# Altium footprint library Logic.PcbLib: 13 footprints
Each footprint in its own frame and in the unit in brackets; x right, y up, seen from the top. Pads: shape width x height; smd on the part's side, far side on the other; paste and mask are expansions set on the pad; w line width, h text height; cw(c..) or ccw(c..) is an arc to the next point about the centre after c.
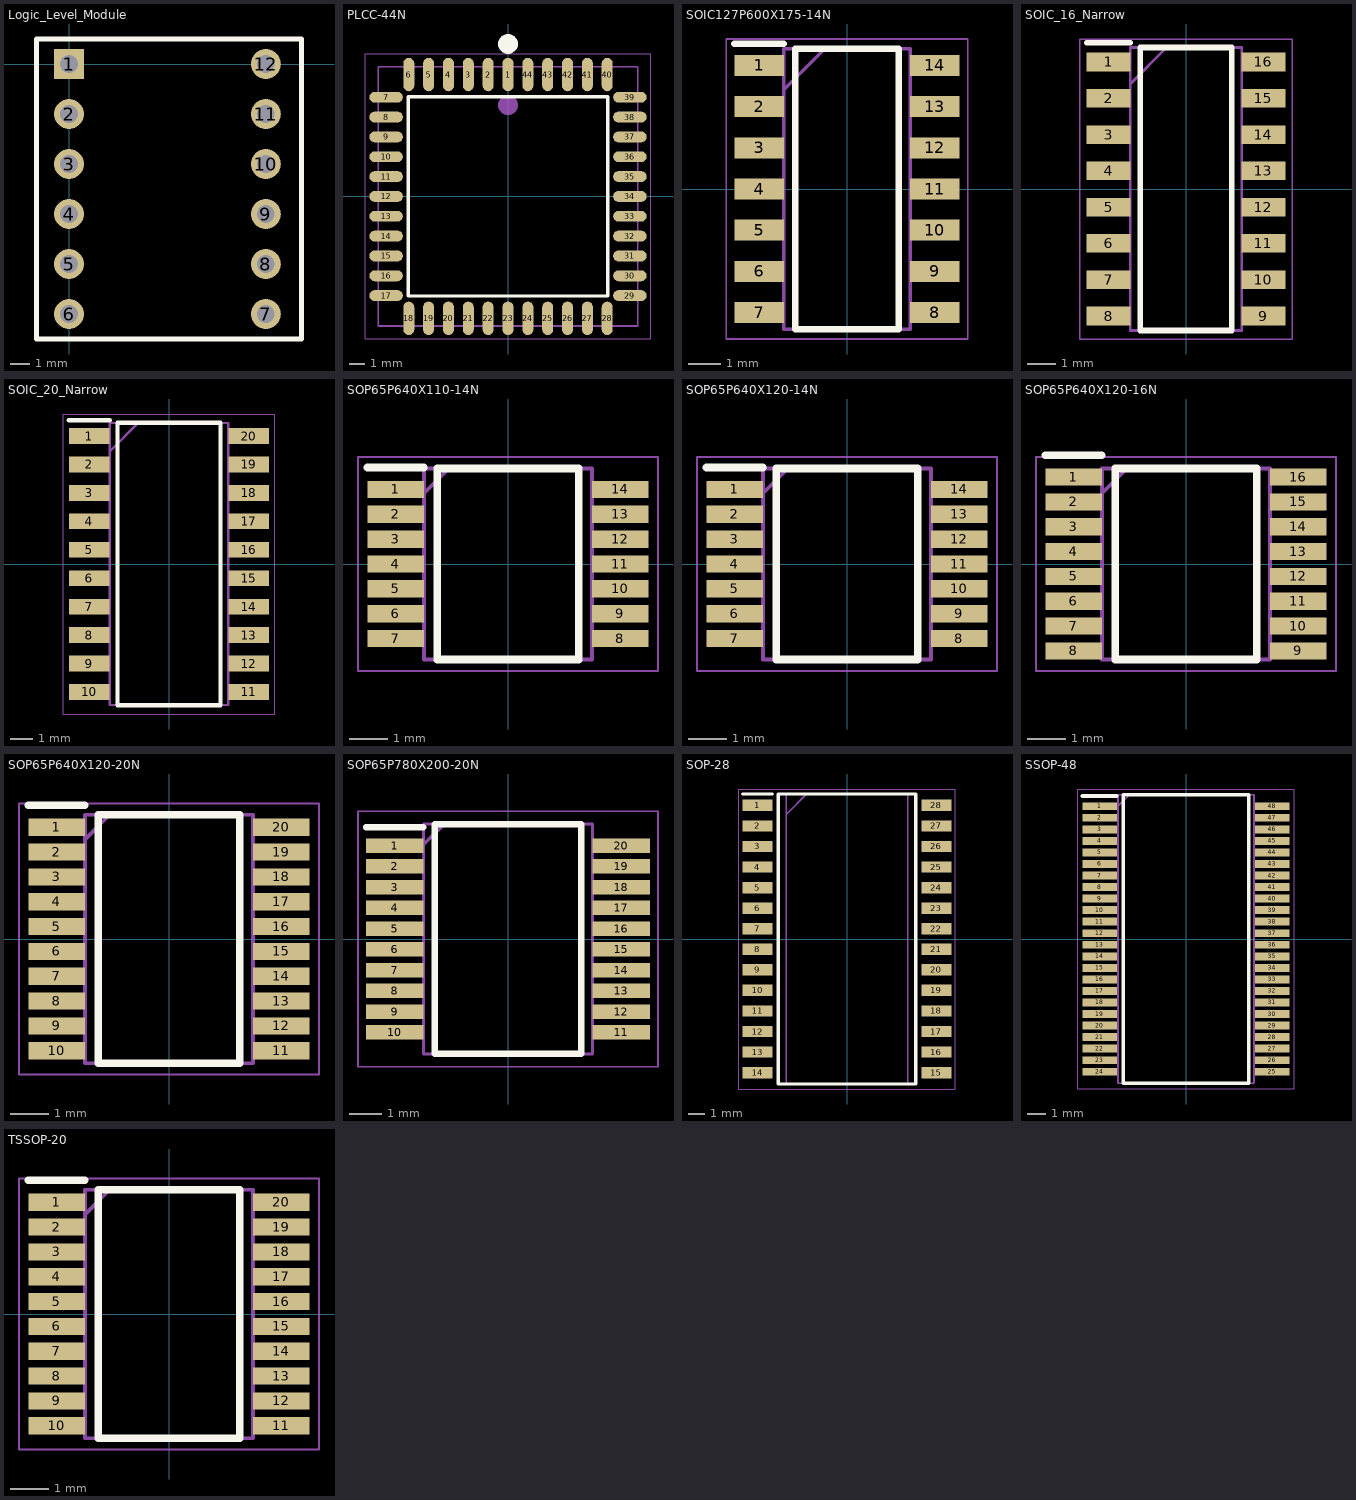
[diagram p0: the footprints below, top view; thin cyan lines are the x and y axes]

## Logic_Level_Module [mil]
pads (12):
  rect 60x60 hole 35.43: 1(0,0)
  round 60 hole 35.43: 2(0,-100) 3(0,-200) 4(0,-300) 5(0,-400) 6(0,-500) 7(393.7,-500) 8(393.7,-400) 9(393.7,-300) 10(393.7,-200) 11(393.7,-100) 12(393.7,0)
Top Overlay:
  lines w10: -65,-550 -65,50 465,50 465,-550 -65,-550

## PLCC-44N [mm]
pads (44):
  oval 0.7x2.144 smd: 1(0,7.803) 2(-1.27,7.803) 3(-2.54,7.803) 4(-3.81,7.803) 5(-5.08,7.803) 6(-6.35,7.803) 18(-6.35,-7.803) 19(-5.08,-7.803) 20(-3.81,-7.803) 21(-2.54,-7.803) 22(-1.27,-7.803) 23(0,-7.803) 24(1.27,-7.803) 25(2.54,-7.803) 26(3.81,-7.803) 27(5.08,-7.803) 28(6.35,-7.803) 40(6.35,7.803) 41(5.08,7.803) 42(3.81,7.803) 43(2.54,7.803) 44(1.27,7.803)
  oval 2.144x0.7 smd: 7(-7.803,6.35) 8(-7.803,5.08) 9(-7.803,3.81) 10(-7.803,2.54) 11(-7.803,1.27) 12(-7.803,0) 13(-7.803,-1.27) 14(-7.803,-2.54) 15(-7.803,-3.81) 16(-7.803,-5.08) 17(-7.803,-6.35) 29(7.803,-6.35) 30(7.803,-5.08) 31(7.803,-3.81) 32(7.803,-2.54) 33(7.803,-1.27) 34(7.803,0) 35(7.803,1.27) 36(7.803,2.54) 37(7.803,3.81) 38(7.803,5.08) 39(7.803,6.35)
Top Overlay:
  circle w0.635: c0,9.76 r0.318
  lines w0.2: -6.381,-6.381 -6.381,6.381 6.381,6.381 6.381,-6.381 -6.381,-6.381
Mechanical 15:
  circle w0.635: c0,5.847 r0.318
  lines w0.1: -8.293,-8.293 -8.293,8.293 8.293,8.293 8.293,-8.293 -8.293,-8.293
Mechanical 20:
  lines w0.05: -9.125,-9.125 -9.125,9.125 9.125,9.125 9.125,-9.125 -9.125,-9.125

## SOIC127P600X175-14N [mm]
pads (14):
  rect 1.525x0.65 smd: 1(-2.712,3.81) 2(-2.712,2.54) 3(-2.712,1.27) 4(-2.712,0) 5(-2.712,-1.27) 6(-2.712,-2.54) 7(-2.712,-3.81) 8(2.712,-3.81) 9(2.712,-2.54) 10(2.712,-1.27) 11(2.712,0) 12(2.712,1.27) 13(2.712,2.54) 14(2.712,3.81)
Top Overlay:
  lines w0.2: -3.475,4.485 -1.95,4.485 ; -1.6,-4.325 1.6,-4.325 1.6,4.325 -1.6,4.325 -1.6,-4.325
Mechanical 15:
  lines w0.1: -1.95,3.055 -0.68,4.325 ; -1.95,-4.325 1.95,-4.325 1.95,4.325 -1.95,4.325 -1.95,-4.325
Mechanical 20:
  lines w0.05: -3.725,-4.625 3.725,-4.625 3.725,4.625 -3.725,4.625 -3.725,-4.625
3D body "CD74HCT20MT.stp": height 1.75, standoff 0, extent -3.013,-4.325 3.013,4.325

## SOIC_16_Narrow [mm]
pads (16):
  rect 1.525x0.65 smd: 1(-2.712,4.445) 2(-2.712,3.175) 3(-2.712,1.905) 4(-2.712,0.635) 5(-2.712,-0.635) 6(-2.712,-1.905) 7(-2.712,-3.175) 8(-2.712,-4.445) 9(2.712,-4.445) 10(2.712,-3.175) 11(2.712,-1.905) 12(2.712,-0.635) 13(2.712,0.635) 14(2.712,1.905) 15(2.712,3.175) 16(2.712,4.445)
Top Overlay:
  lines w0.2: -3.475,5.12 -1.95,5.12 ; -1.6,-4.95 1.6,-4.95 1.6,4.95 -1.6,4.95 -1.6,-4.95
Mechanical 15:
  lines w0.1: -1.95,3.68 -0.68,4.95 ; -1.95,-4.95 1.95,-4.95 1.95,4.95 -1.95,4.95 -1.95,-4.95
Mechanical 20:
  lines w0.05: -3.725,-5.25 3.725,-5.25 3.725,5.25 -3.725,5.25 -3.725,-5.25
3D body "SN74HC595DR.stp": height 1.75, standoff 0, extent -3.013,-4.95 3.013,4.95

## SOIC_20_Narrow [mm]
pads (20):
  rect 1.825x0.7 smd: 1(-3.562,5.715) 2(-3.562,4.445) 3(-3.562,3.175) 4(-3.562,1.905) 5(-3.562,0.635) 6(-3.562,-0.635) 7(-3.562,-1.905) 8(-3.562,-3.175) 9(-3.562,-4.445) 10(-3.562,-5.715) 11(3.562,-5.715) 12(3.562,-4.445) 13(3.562,-3.175) 14(3.562,-1.905) 15(3.562,-0.635) 16(3.562,0.635) 17(3.562,1.905) 18(3.562,3.175) 19(3.562,4.445) 20(3.562,5.715)
Top Overlay:
  lines w0.2: -4.475,6.415 -2.65,6.415 ; -2.3,-6.3 2.3,-6.3 2.3,6.3 -2.3,6.3 -2.3,-6.3
Mechanical 15:
  lines w0.1: -2.65,5.03 -1.38,6.3 ; -2.65,-6.3 2.65,-6.3 2.65,6.3 -2.65,6.3 -2.65,-6.3
Mechanical 20:
  lines w0.05: -4.725,-6.7 4.725,-6.7 4.725,6.7 -4.725,6.7 -4.725,-6.7
3D body "SN74HCT574NSR.stp": height 2, standoff 0, extent -3.773,-6.427 4.027,6.173

## SOP65P640X110-14N [mm]
pads (14):
  rect 1.475x0.45 smd: 1(-2.938,1.95) 2(-2.938,1.3) 3(-2.938,0.65) 4(-2.938,0) 5(-2.938,-0.65) 6(-2.938,-1.3) 7(-2.938,-1.95) 8(2.938,-1.95) 9(2.938,-1.3) 10(2.938,-0.65) 11(2.938,0) 12(2.938,0.65) 13(2.938,1.3) 14(2.938,1.95)
Top Overlay:
  lines w0.2: -3.675,2.525 -2.2,2.525 ; -1.85,-2.5 -1.85,2.5 1.85,2.5 1.85,-2.5 -1.85,-2.5
Mechanical 15:
  lines w0.1: -2.2,1.85 -1.55,2.5 ; -2.2,-2.5 -2.2,2.5 2.2,2.5 2.2,-2.5 -2.2,-2.5
Mechanical 20:
  lines w0.05: -3.925,-2.8 -3.925,2.8 3.925,2.8 3.925,-2.8 -3.925,-2.8
3D body "74HCT125PW,118.stp": height 1.1, standoff 0, extent -3.2,-2.5 3.2,2.5

## SOP65P640X120-14N [mm]
pads (14):
  rect 1.475x0.45 smd: 1(-2.938,1.95) 2(-2.938,1.3) 3(-2.938,0.65) 4(-2.938,0) 5(-2.938,-0.65) 6(-2.938,-1.3) 7(-2.938,-1.95) 8(2.938,-1.95) 9(2.938,-1.3) 10(2.938,-0.65) 11(2.938,0) 12(2.938,0.65) 13(2.938,1.3) 14(2.938,1.95)
Top Overlay:
  lines w0.2: -3.675,2.525 -2.2,2.525 ; -1.85,-2.5 1.85,-2.5 1.85,2.5 -1.85,2.5 -1.85,-2.5
Mechanical 15:
  lines w0.1: -2.2,1.85 -1.55,2.5 ; -2.2,-2.5 2.2,-2.5 2.2,2.5 -2.2,2.5 -2.2,-2.5
Mechanical 20:
  lines w0.05: -3.925,-2.8 3.925,-2.8 3.925,2.8 -3.925,2.8 -3.925,-2.8
3D body "SN74AC04PWR.stp": height 1.13, standoff 0, extent -3.2,-2.5 3.2,2.5

## SOP65P640X120-16N [mm]
pads (16):
  rect 1.475x0.45 smd: 1(-2.938,2.275) 2(-2.938,1.625) 3(-2.938,0.975) 4(-2.938,0.325) 5(-2.938,-0.325) 6(-2.938,-0.975) 7(-2.938,-1.625) 8(-2.938,-2.275) 9(2.938,-2.275) 10(2.938,-1.625) 11(2.938,-0.975) 12(2.938,-0.325) 13(2.938,0.325) 14(2.938,0.975) 15(2.938,1.625) 16(2.938,2.275)
Top Overlay:
  lines w0.2: -3.675,2.85 -2.2,2.85 ; -1.85,-2.5 -1.85,2.5 1.85,2.5 1.85,-2.5 -1.85,-2.5
Mechanical 15:
  lines w0.1: -2.2,1.85 -1.55,2.5 ; -2.2,-2.5 -2.2,2.5 2.2,2.5 2.2,-2.5 -2.2,-2.5
Mechanical 20:
  lines w0.05: -3.925,-2.8 -3.925,2.8 3.925,2.8 3.925,-2.8 -3.925,-2.8
3D body "AM26LV32EIPWR.stp": height 1.13, standoff 0, extent -3.2,-2.5 3.2,2.5

## SOP65P640X120-20N [mm]
pads (20):
  rect 1.475x0.45 smd: 1(-2.938,2.925) 2(-2.938,2.275) 3(-2.938,1.625) 4(-2.938,0.975) 5(-2.938,0.325) 6(-2.938,-0.325) 7(-2.938,-0.975) 8(-2.938,-1.625) 9(-2.938,-2.275) 10(-2.938,-2.925) 11(2.938,-2.925) 12(2.938,-2.275) 13(2.938,-1.625) 14(2.938,-0.975) 15(2.938,-0.325) 16(2.938,0.325) 17(2.938,0.975) 18(2.938,1.625) 19(2.938,2.275) 20(2.938,2.925)
Top Overlay:
  lines w0.2: -3.675,3.5 -2.2,3.5 ; -1.85,-3.25 -1.85,3.25 1.85,3.25 1.85,-3.25 -1.85,-3.25
Mechanical 15:
  lines w0.1: -2.2,2.6 -1.55,3.25 ; -2.2,-3.25 -2.2,3.25 2.2,3.25 2.2,-3.25 -2.2,-3.25
Mechanical 20:
  lines w0.05: -3.925,-3.55 -3.925,3.55 3.925,3.55 3.925,-3.55 -3.925,-3.55

## SOP65P780X200-20N [mm]
pads (20):
  rect 1.8x0.45 smd: 1(-3.55,2.925) 2(-3.55,2.275) 3(-3.55,1.625) 4(-3.55,0.975) 5(-3.55,0.325) 6(-3.55,-0.325) 7(-3.55,-0.975) 8(-3.55,-1.625) 9(-3.55,-2.275) 10(-3.55,-2.925) 11(3.55,-2.925) 12(3.55,-2.275) 13(3.55,-1.625) 14(3.55,-0.975) 15(3.55,-0.325) 16(3.55,0.325) 17(3.55,0.975) 18(3.55,1.625) 19(3.55,2.275) 20(3.55,2.925)
Top Overlay:
  lines w0.2: -4.45,3.5 -2.65,3.5 ; -2.3,-3.6 -2.3,3.6 2.3,3.6 2.3,-3.6 -2.3,-3.6
Mechanical 15:
  lines w0.1: -2.65,2.95 -2,3.6 ; -2.65,-3.6 -2.65,3.6 2.65,3.6 2.65,-3.6 -2.65,-3.6
Mechanical 20:
  lines w0.05: -4.7,-4 -4.7,4 4.7,4 4.7,-4 -4.7,-4
3D body "SN74ABT240ADBR.stp": height 1.9, standoff 0, extent -4.027,-3.6 3.773,3.6
3D body "SN74HCS273PWR.stp": height 1.13, standoff 0, extent -3.2,-3.25 3.2,3.25

## SOP-28 [mm]
pads (28):
  rect 1.85x0.7 smd: 1(-5.525,8.255) 2(-5.525,6.985) 3(-5.525,5.715) 4(-5.525,4.445) 5(-5.525,3.175) 6(-5.525,1.905) 7(-5.525,0.635) 8(-5.525,-0.635) 9(-5.525,-1.905) 10(-5.525,-3.175) 11(-5.525,-4.445) 12(-5.525,-5.715) 13(-5.525,-6.985) 14(-5.525,-8.255) 15(5.525,-8.255) 16(5.525,-6.985) 17(5.525,-5.715) 18(5.525,-4.445) 19(5.525,-3.175) 20(5.525,-1.905) 21(5.525,-0.635) 22(5.525,0.635) 23(5.525,1.905) 24(5.525,3.175) 25(5.525,4.445) 26(5.525,5.715) 27(5.525,6.985) 28(5.525,8.255)
Top Overlay:
  lines w0.2: -6.45,8.955 -4.6,8.955 ; -4.25,-8.966 4.25,-8.966 4.25,8.966 -4.25,8.966 -4.25,-8.966
Mechanical 15:
  lines w0.1: -3.753,7.696 -2.483,8.966 ; -3.753,-8.966 3.753,-8.966 3.753,8.966 -3.753,8.966 -3.753,-8.966
Mechanical 20:
  lines w0.05: -6.7,-9.267 6.7,-9.267 6.7,9.267 -6.7,9.267 -6.7,-9.267
3D body "CY62256NLL-55SNXI.stp": height 2.79, standoff 0, extent -5.969,-9.093 5.969,8.839

## SSOP-48 [mm]
pads (48):
  rect 1.9x0.435 smd: 1(-4.75,7.302) 2(-4.75,6.668) 3(-4.75,6.032) 4(-4.75,5.398) 5(-4.75,4.762) 6(-4.75,4.128) 7(-4.75,3.492) 8(-4.75,2.858) 9(-4.75,2.222) 10(-4.75,1.588) 11(-4.75,0.952) 12(-4.75,0.318) 13(-4.75,-0.318) 14(-4.75,-0.952) 15(-4.75,-1.588) 16(-4.75,-2.222) 17(-4.75,-2.858) 18(-4.75,-3.492) 19(-4.75,-4.128) 20(-4.75,-4.762) 21(-4.75,-5.398) 22(-4.75,-6.032) 23(-4.75,-6.668) 24(-4.75,-7.302) 25(4.75,-7.302) 26(4.75,-6.668) 27(4.75,-6.032) 28(4.75,-5.398) 29(4.75,-4.762) 30(4.75,-4.128) 31(4.75,-3.492) 32(4.75,-2.858) 33(4.75,-2.222) 34(4.75,-1.588) 35(4.75,-0.952) 36(4.75,-0.318) 37(4.75,0.318) 38(4.75,0.952) 39(4.75,1.588) 40(4.75,2.222) 41(4.75,2.858) 42(4.75,3.492) 43(4.75,4.128) 44(4.75,4.762) 45(4.75,5.398) 46(4.75,6.032) 47(4.75,6.668) 48(4.75,7.302)
Top Overlay:
  lines w0.2: -5.7,7.87 -3.8,7.87 ; -3.45,-7.938 -3.45,7.938 3.45,7.938 3.45,-7.938 -3.45,-7.938
Mechanical 15:
  lines w0.1: -3.745,7.302 -3.11,7.938 ; -3.745,-7.938 -3.745,7.938 3.745,7.938 3.745,-7.938 -3.745,-7.938
Mechanical 20:
  lines w0.05: -5.95,-8.25 -5.95,8.25 5.95,8.25 5.95,-8.25 -5.95,-8.25
3D body "CY74FCT16244TPVC.stp": height 2.58, standoff -0.01, extent -5.175,-7.938 5.175,7.938

## TSSOP-20 [mm]
pads (20):
  rect 1.475x0.45 smd: 1(-2.938,2.925) 2(-2.938,2.275) 3(-2.938,1.625) 4(-2.938,0.975) 5(-2.938,0.325) 6(-2.938,-0.325) 7(-2.938,-0.975) 8(-2.938,-1.625) 9(-2.938,-2.275) 10(-2.938,-2.925) 11(2.938,-2.925) 12(2.938,-2.275) 13(2.938,-1.625) 14(2.938,-0.975) 15(2.938,-0.325) 16(2.938,0.325) 17(2.938,0.975) 18(2.938,1.625) 19(2.938,2.275) 20(2.938,2.925)
Top Overlay:
  lines w0.2: -3.675,3.5 -2.2,3.5 ; -1.85,-3.25 1.85,-3.25 1.85,3.25 -1.85,3.25 -1.85,-3.25
Mechanical 13:
  lines w0.1: -2.2,2.6 -1.55,3.25 ; -2.2,-3.25 2.2,-3.25 2.2,3.25 -2.2,3.25 -2.2,-3.25
Mechanical 15:
  lines w0.05: -3.925,-3.55 3.925,-3.55 3.925,3.55 -3.925,3.55 -3.925,-3.55
3D body "SN74CB3Q3244PWR.stp": height 1.2, standoff 0, extent -3.2,-3.25 3.2,3.25